# Altium integrated library Linear Technology PMIC-Switching Reg LTC1174-LTC3901.IntLib: 2647 symbols (part 289 of 310)
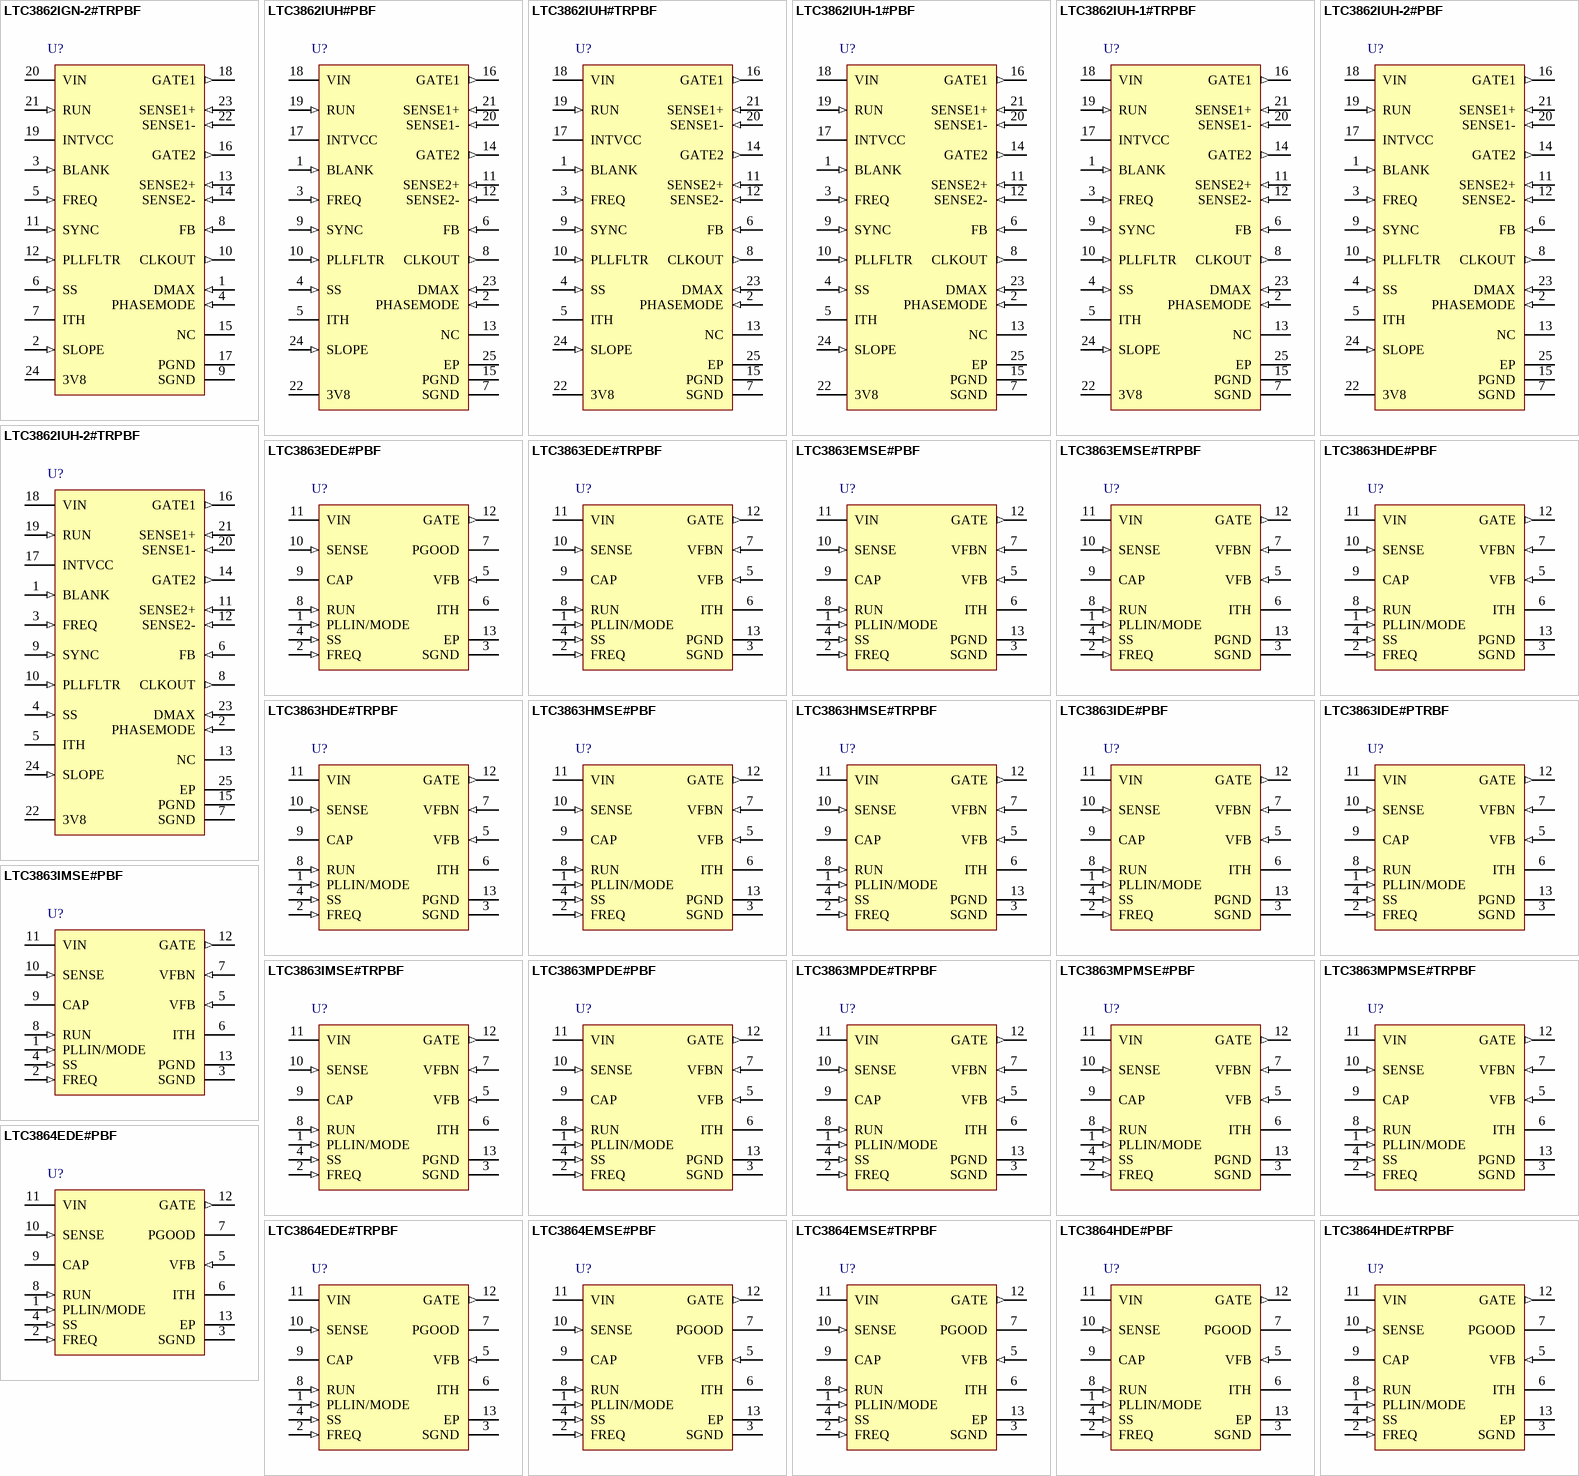
[diagram p291: symbols LTC3862IGN-2#TRPBF to LTC3864HDE#TRPBF]

## LTC3862IUH-2#TRPBF
designator U?
Multi-Phase Current Mode Step-Up DC/DC Controller, 10 V IntVcc, 7.5 V UV+, 7 V UV-, 24-pin QFN (UH-24), -40 to 150 degC, Pb-Free, Tape and Reel; Manufacturer: Linear Technology; PartNumber: LTC3862IUH-2#TRPBF; Number of Outputs: 1; PackageReference: UH-24; PackageDescription: 24-Pin Plastic QFN, Body 5 x 5 mm, Pitch 0.65 mm; Supplier 1: Digi-Key; Supplier Part Number 1: LTC3862IUH-2#TRPBF-ND; RoHS: TRUE
footprint LT-UH-24_N (QFN, 24-Leads, Body 5.1x5.1mm, Pitch 0.65mm, Thermal Pad 3.2x3.2mm, IPC Medium Density)
footprint LT-UH-24_L (QFN, 24-Leads, Body 5.1x5.1mm, Pitch 0.65mm, Thermal Pad 3.2x3.2mm, IPC High Density)
footprint LT-UH-24_M (QFN, 24-Leads, Body 5.1x5.1mm, Pitch 0.65mm, Thermal Pad 3.2x3.2mm, IPC Low Density)
pins: 1 BLANK (in) "Blanking Time. Floating this pin provides a nominal minimum on-time of 290ns. Connecting this pin to 3V8 provides a minimum on-time of 375ns, while connecting it to SGND provides a minimum on-time of 210ns.", 2 PHASEMODE (in) "The PHASEMODE pin voltage programs the phase relationship between CH1 and CH2 rising gate signals, as well as the phase relationship between CH1 gate signal and CLKOUT. Floating this pin or connecting it to either 3V8, or (See Datasheet)", 3 FREQ (in) "A resistor from FREQ to SGND sets the operating frequency.", 4 SS (in) "Soft-Start Input. For soft-start operation, connecting a capacitor from this pin to SGND will clamp the output of the error amp. An internal 5uA current source will charge the capacitor and set the rate of increase of the (See Datasheet)", 5 ITH "Error Amplifier Output. The current comparator trip threshold increases with the ITH control voltage. The ITH pin is also used for compensating the control loop of the converter.", 6 FB (in) "Error Amplifier Input. The FB pin should be connected through a resistive divider network to VOUT to set the output voltage.", 7 SGND (power) "Signal Ground. All feedback and soft-start connections should return to SGND. For optimum load regulation, the SGND pin should be kelvin connected to the PCB location between the negative terminals of the output capacitors.", 8 CLKOUT (out), 9 SYNC (in) "PLL Synchronization Input. Applying an external clock between 50kHz and 650kHz will cause the operating frequency to synchronize to the clock. SYNC is pulled down by a 50k internal resistor. The rising edge of the SYNC input (See Datasheet)", 10 PLLFLTR (in) "PLL Lowpass Filter Input. When synchronizing to an external clock, this pin serves as the lowpass filter input for the PLL. A series resistor and capacitor connected from PLLFLTR to SGND compensate the PLL feedback loop.", 11 SENSE2+ (in) "Positive Inputs to the Current Comparators. The ITH pin voltage programs the current comparator offset in order to set the peak current trip threshold. This pin is normally connected to a sense resistor in the source of the (See Datasheet)", 12 SENSE2- (in) "Negative Inputs to the Current Comparators. This pin is normally connected to the bottom of the sense resistor.", 13 NC, 14 GATE2 (out), 15 PGND (power) "Power Ground. Connect this pin close to the sources of the power MOSFETs. PGND should also be connected to the negative terminals of VIN and INTVCC bypass capacitors. PGND is electrically isolated from the SGND pin. The (See Datasheet)", 16 GATE1 (out), 17 INTVCC (power) "Output of the Internal 10V Low Dropout Regulator (LDO). A low ESR 4.7uF (X5R or better) ceramic bypass capacitor should be connected between INTVCC and PGND, as close as possible to the IC.", 18 VIN (power) "Main Supply Input. A low ESR ceramic capacitor should be connected between this pin and SGND.", 19 RUN (in) "Run Control Input. A voltage above 1.22V on the pin turns on the IC. Forcing the pin below 1.22V causes the IC to shut down. There is a 0.5uA pull-up current for this pin. Once the RUN pin raises above 1.22V, an additional 4.(See Datasheet)", 20 SENSE1- (in) "Negative Inputs to the Current Comparators. This pin is normally connected to the bottom of the sense resistor.", 21 SENSE1+ (in) "Positive Inputs to the Current Comparators. The ITH pin voltage programs the current comparator offset in order to set the peak current trip threshold. This pin is normally connected to a sense resistor in the source of the (See Datasheet)", 22 3V8 (power) "Output of the Internal 3.8V LDO from INTVCC. Supply pin for the low voltage analog and digital circuits. A low ESR 1nF ceramic bypass capacitor should be connected between 3V8 and SGND, as close as possible to the IC.", 23 DMAX (in) "Maximum Duty Cycle. This pin programs the maximum duty cycle. Floating this pin provides 84% duty cycle. Connecting this pin to 3V8 provides 75% duty cycle, while connecting it to SGND provides 96% duty cycle. The maximum (See Datasheet)", 24 SLOPE (in) "This pin programs the gain of the internal slope compensation. Floating this pin provides a normalized slope compensation gain of 1.00. Connecting this pin to 3V8 increases the normalized slope compensation by 66%, and (See Datasheet)", 25 EP (power)

## LTC3863EDE#PBF
designator U?
Low IQ Inverting DC/DC Controller, 12-pin SON (DE-UE-12), -40 to 125 degC, Pb-Free; Manufacturer: Linear Technology; PartNumber: LTC3863EDE#PBF; Number of Outputs: 1; PackageReference: DE-UE-12; PackageDescription: 12-Pin Plastic DFN, Body 4 x 3 mm, Pitch 0.5 mm; Supplier 1: Digi-Key; Supplier Part Number 1: LTC3863EDE#PBF-ND; RoHS: TRUE; Code_JEDEC: MO-229
footprint LT-DE-UE-12_V (SON, 12-Leads, Body 4x3mm, Pitch 0.5mm, Thermal Pad 3.3x1.7mm)
pins: 1 PLLIN/MODE (in) "External Reference Clock Input and Burst Mode Enable/Disable. When an external clock is applied to this pin, the internal phase-locked loop will synchronize the turn-on edge of the gate drive signal with the rising edge of (See Datasheet)", 2 FREQ (in) "Switching Frequency Set Point Input. The switching frequency is programmed by an external setpoint resistor RFREQ connected between the FREQ pin and signal ground. An internal 20uA current source creates a voltage across the (See Datasheet)", 3 SGND (power) "Ground Reference for Small Signal Analog Component (Signal Ground). Signal ground should be used as the common ground for all small signal analog inputs and compensation components. Connect signal ground to power ground (See Datasheet)", 4 SS (in) "Soft-Start and External Tracking Input. The LTC3864 regulates the feedback voltage to the smaller of 0.8V or the voltage on the SS pin. An internal 10uA pull-up current source is connected to this pin. A capacitor to ground (See Datasheet)", 5 VFB (in) "Output Feedback Sense. A resistor divider from the regulated output point to this pin sets the output voltage. The LTC3864 will nominally regulate VFB to the internal reference value of 0.8V. If VFB is less than 0.4V, the (See Datasheet)", 6 ITH "Current Control Threshold and Controller Compensation Point. This pin is the output of the error amplifier and the switching regulator? compensation point. The voltage ranges from 0V to 2.9V, with 0.8V corresponding t(See Datasheet)", 7 PGOOD (oc) "Power Good Indicator Output. This open drain logic output is pulled to ground when the output voltage is outside of a +/-10% window around the regulation point. The PGOOD switches states only after a 100us delay.", 8 RUN (in) "Digital Run Control Input. A RUN voltage above the 1.26V threshold enables normal operation, while a voltage below the threshold shuts down the controller. An internal 0.4uA current source pulls the RUN pin up to about 3.3V. (See Datasheet)", 9 CAP (power) "Gate Driver (-) Supply. A low ESR ceramic bypass capacitor of at least 0.1uF or 10X the effective CMILLER of the P-channel power MOSFET, is required from VIN to this pin to serve as a bypass capacitor for the internal (See Datasheet)", 10 SENSE (in) "Current Sense Input. A sense resistor RSENSE from VIN pin to the SENSE pin sets the maximum current limit. The peak inductor current limit is equal to 95mV/RSENSE. For accuracy, it is important that the VINpin and the SENSE (See Datasheet)", 11 VIN (power) "Chip Power Supply. A minimum bypass capacitor of 0.1uF is required from the VIN pin to power ground. For best performance use a low ESR ceramic capacitor placed near the VIN pin.", 12 GATE (out) "Gate Drive Output for External P-Channel MOSFET. The gate driver bias supply voltage (VIN-VCAP) is regulated to 8V when VIN is greater than 8V. The gate driver is disabled when (VIN-VCAP) is less than 3.5V (typical), 3.8V (See Datasheet)", 13 EP (power) "Ground Reference for Power Components (Power Ground). The PGND exposed pad must be soldered to the circuit board for electrical contact and for rated thermal performance of the package. Connect signal ground to power ground (See Datasheet)"

## LTC3863EDE#TRPBF
designator U?
Low IQ Inverting DC/DC Controller, 12-pin SON (DE-UE-12), -40 to 125 degC, Pb-Free, Tape and Reel; Manufacturer: Linear Technology; PartNumber: LTC3863EDE#TRPBF; Number of Outputs: 1; PackageReference: DE-UE-12; PackageDescription: 12-Pin Plastic DFN, Body 4 x 3 mm, Pitch 0.5 mm; Supplier 1: Digi-Key; Supplier Part Number 1: LTC3863EDE#TRPBF-ND; RoHS: TRUE; Code_JEDEC: MO-229
footprint LT-DE-UE-12_V (SON, 12-Leads, Body 4x3mm, Pitch 0.5mm, Thermal Pad 3.3x1.7mm)
pins: 1 PLLIN/MODE (in) "External Reference Clock Input and Burst Mode Enable/Disable. When an external clock is applied to this pin, the internal phase-locked loop will synchronize the turn-on edge of the gate drive signal with the rising edge of (See Datasheet)", 2 FREQ (in) "Switching Frequency Setpoint Input. The switching frequency is programmed by an external setpoint resistor RFREQ connected between the FREQ pin and signal ground. An internal 20uA current source creates a voltage across the (See Datasheet)", 3 SGND (power) "Ground Reference for Small-Signal Analog Component (Signal Ground). Signal ground should be used as the common ground for all small-signal analog inputs and compensation components. Connect the signal ground to the power (See Datasheet)", 4 SS (in) "Soft-Start and External Tracking Input. The LTC3863 regulates the feedback voltage to the smaller of 0.8V or the voltage on the SS pin. An internal 10uA pull-up current source is connected to this pin. A capacitor to ground (See Datasheet)", 5 VFB (in) "Output Feedback Sense. A resistor divider from the regulated output point to this pin sets the output voltage. The LTC3863 will nominally regulate VFB to the internal reference value of 0.8V. If VFB is less than 0.4V, the (See Datasheet)", 6 ITH "Current Control Threshold and Controller Compensation Point. This pin is the output of the error amplifier and the switching regulator’s compensation point. The voltage ranges from 0V to 2.9V, with 0.8V corresponding t(See Datasheet)", 7 VFBN (in) "Feedback Input for an Inverting PWM Controller. Connect VFBN to the center of a resistor divider between the output and VFB. The VFBN threshold is 0V. To defeat the inverting amplifier and use the LTC3863 as an LTC3864 (See Datasheet)", 8 RUN (in) "Digital Run Control Input. A RUN voltage above the 1.26V threshold enables normal operation, while a voltage below the threshold shuts down the controller. An internal 0.4uA current source pulls the RUN pin up to about 3.3V. (See Datasheet)", 9 CAP "Gate Driver (-) Supply. A low ESR ceramic bypass capacitor of at least 0.1uF or 10X the effective CMILLER of the P-channel power MOSFET, is required from VIN to this pin to serve as a bypass capacitor for the internal (See Datasheet)", 10 SENSE (in) "Current Sense Input. A sense resistor, RSENSE, from the VIN pin to the SENSE pin sets the maximum current limit. The peak inductor current limit is equal to 95mV/RSENSE. For accuracy, it is important that the VIN pin and the (See Datasheet)", 11 VIN (power) "Chip Power Supply. A minimum bypass capacitor of 0.1uF is required from the VIN pin to power ground. For best performance use a low ESR ceramic capacitor placed near the VIN pin.", 12 GATE (out) "Gate Drive Output for External P-Channel MOSFET. The gate driver bias supply voltage (VIN-VCAP) is regulated to 8V when VIN is greater than 8V. The gate driver is disabled when (VIN-VCAP) is less than 3.5V (typical), 3.8V (See Datasheet)", 13 PGND (power) "Ground Reference for PowerComponents (Power Ground). The PGND exposed pad must be soldered to the circuit board for electrical contact and for rated thermal performance of the package. Connect signal ground to power ground (See Datasheet)"

## LTC3863EMSE#PBF
designator U?
Low IQ Inverting DC/DC Controller, 12-pin SOP (MSE-12-EDP), -40 to 125 degC, Pb-Free; Manufacturer: Linear Technology; PartNumber: LTC3863EMSE#PBF; Number of Outputs: 1; PackageReference: MSE-12-EDP; PackageDescription: 12-Pin Plastic MSOP, Exposed Die Pad, Body 4.039 x 3 mm, Pitch 0.65 mm; Supplier 1: Digi-Key; Supplier Part Number 1: LTC3863EMSE#PBF-ND; RoHS: TRUE
footprint LT-MSE-12-EDP_N (SOP, 12-Leads, Body 4.1x3.1mm, Pitch 0.65mm, Thermal Pad 2.95x1.76mm, IPC Medium Density)
footprint LT-MSE-12-EDP_L (SOP, 12-Leads, Body 4.1x3.1mm, Pitch 0.65mm, Thermal Pad 2.95x1.76mm, IPC High Density)
footprint LT-MSE-12-EDP_M (SOP, 12-Leads, Body 4.1x3.1mm, Pitch 0.65mm, Thermal Pad 2.95x1.76mm, IPC Low Density)
pins: 1 PLLIN/MODE (in) "External Reference Clock Input and Burst Mode Enable/Disable. When an external clock is applied to this pin, the internal phase-locked loop will synchronize the turn-on edge of the gate drive signal with the rising edge of (See Datasheet)", 2 FREQ (in) "Switching Frequency Setpoint Input. The switching frequency is programmed by an external setpoint resistor RFREQ connected between the FREQ pin and signal ground. An internal 20uA current source creates a voltage across the (See Datasheet)", 3 SGND (power) "Ground Reference for Small-Signal Analog Component (Signal Ground). Signal ground should be used as the common ground for all small-signal analog inputs and compensation components. Connect the signal ground to the power (See Datasheet)", 4 SS (in) "Soft-Start and External Tracking Input. The LTC3863 regulates the feedback voltage to the smaller of 0.8V or the voltage on the SS pin. An internal 10uA pull-up current source is connected to this pin. A capacitor to ground (See Datasheet)", 5 VFB (in) "Output Feedback Sense. A resistor divider from the regulated output point to this pin sets the output voltage. The LTC3863 will nominally regulate VFB to the internal reference value of 0.8V. If VFB is less than 0.4V, the (See Datasheet)", 6 ITH "Current Control Threshold and Controller Compensation Point. This pin is the output of the error amplifier and the switching regulator’s compensation point. The voltage ranges from 0V to 2.9V, with 0.8V corresponding t(See Datasheet)", 7 VFBN (in) "Feedback Input for an Inverting PWM Controller. Connect VFBN to the center of a resistor divider between the output and VFB. The VFBN threshold is 0V. To defeat the inverting amplifier and use the LTC3863 as an LTC3864 (See Datasheet)", 8 RUN (in) "Digital Run Control Input. A RUN voltage above the 1.26V threshold enables normal operation, while a voltage below the threshold shuts down the controller. An internal 0.4uA current source pulls the RUN pin up to about 3.3V. (See Datasheet)", 9 CAP "Gate Driver (-) Supply. A low ESR ceramic bypass capacitor of at least 0.1uF or 10X the effective CMILLER of the P-channel power MOSFET, is required from VIN to this pin to serve as a bypass capacitor for the internal (See Datasheet)", 10 SENSE (in) "Current Sense Input. A sense resistor, RSENSE, from the VIN pin to the SENSE pin sets the maximum current limit. The peak inductor current limit is equal to 95mV/RSENSE. For accuracy, it is important that the VIN pin and the (See Datasheet)", 11 VIN (power) "Chip Power Supply. A minimum bypass capacitor of 0.1uF is required from the VIN pin to power ground. For best performance use a low ESR ceramic capacitor placed near the VIN pin.", 12 GATE (out) "Gate Drive Output for External P-Channel MOSFET. The gate driver bias supply voltage (VIN-VCAP) is regulated to 8V when VIN is greater than 8V. The gate driver is disabled when (VIN-VCAP) is less than 3.5V (typical), 3.8V (See Datasheet)", 13 PGND (power) "Ground Reference for PowerComponents (Power Ground). The PGND exposed pad must be soldered to the circuit board for electrical contact and for rated thermal performance of the package. Connect signal ground to power ground (See Datasheet)"

## LTC3863EMSE#TRPBF
designator U?
Low IQ Inverting DC/DC Controller, 12-pin SOP (MSE-12-EDP), -40 to 125 degC, Pb-Free, Tape and Reel; Manufacturer: Linear Technology; PartNumber: LTC3863EMSE#TRPBF; Number of Outputs: 1; PackageReference: MSE-12-EDP; PackageDescription: 12-Pin Plastic MSOP, Exposed Die Pad, Body 4.039 x 3 mm, Pitch 0.65 mm; Supplier 1: Digi-Key; Supplier Part Number 1: LTC3863EMSE#TRPBF-ND; RoHS: TRUE
footprint LT-MSE-12-EDP_N (SOP, 12-Leads, Body 4.1x3.1mm, Pitch 0.65mm, Thermal Pad 2.95x1.76mm, IPC Medium Density)
footprint LT-MSE-12-EDP_L (SOP, 12-Leads, Body 4.1x3.1mm, Pitch 0.65mm, Thermal Pad 2.95x1.76mm, IPC High Density)
footprint LT-MSE-12-EDP_M (SOP, 12-Leads, Body 4.1x3.1mm, Pitch 0.65mm, Thermal Pad 2.95x1.76mm, IPC Low Density)
pins: 1 PLLIN/MODE (in) "External Reference Clock Input and Burst Mode Enable/Disable. When an external clock is applied to this pin, the internal phase-locked loop will synchronize the turn-on edge of the gate drive signal with the rising edge of (See Datasheet)", 2 FREQ (in) "Switching Frequency Setpoint Input. The switching frequency is programmed by an external setpoint resistor RFREQ connected between the FREQ pin and signal ground. An internal 20uA current source creates a voltage across the (See Datasheet)", 3 SGND (power) "Ground Reference for Small-Signal Analog Component (Signal Ground). Signal ground should be used as the common ground for all small-signal analog inputs and compensation components. Connect the signal ground to the power (See Datasheet)", 4 SS (in) "Soft-Start and External Tracking Input. The LTC3863 regulates the feedback voltage to the smaller of 0.8V or the voltage on the SS pin. An internal 10uA pull-up current source is connected to this pin. A capacitor to ground (See Datasheet)", 5 VFB (in) "Output Feedback Sense. A resistor divider from the regulated output point to this pin sets the output voltage. The LTC3863 will nominally regulate VFB to the internal reference value of 0.8V. If VFB is less than 0.4V, the (See Datasheet)", 6 ITH "Current Control Threshold and Controller Compensation Point. This pin is the output of the error amplifier and the switching regulator’s compensation point. The voltage ranges from 0V to 2.9V, with 0.8V corresponding t(See Datasheet)", 7 VFBN (in) "Feedback Input for an Inverting PWM Controller. Connect VFBN to the center of a resistor divider between the output and VFB. The VFBN threshold is 0V. To defeat the inverting amplifier and use the LTC3863 as an LTC3864 (See Datasheet)", 8 RUN (in) "Digital Run Control Input. A RUN voltage above the 1.26V threshold enables normal operation, while a voltage below the threshold shuts down the controller. An internal 0.4uA current source pulls the RUN pin up to about 3.3V. (See Datasheet)", 9 CAP "Gate Driver (-) Supply. A low ESR ceramic bypass capacitor of at least 0.1uF or 10X the effective CMILLER of the P-channel power MOSFET, is required from VIN to this pin to serve as a bypass capacitor for the internal (See Datasheet)", 10 SENSE (in) "Current Sense Input. A sense resistor, RSENSE, from the VIN pin to the SENSE pin sets the maximum current limit. The peak inductor current limit is equal to 95mV/RSENSE. For accuracy, it is important that the VIN pin and the (See Datasheet)", 11 VIN (power) "Chip Power Supply. A minimum bypass capacitor of 0.1uF is required from the VIN pin to power ground. For best performance use a low ESR ceramic capacitor placed near the VIN pin.", 12 GATE (out) "Gate Drive Output for External P-Channel MOSFET. The gate driver bias supply voltage (VIN-VCAP) is regulated to 8V when VIN is greater than 8V. The gate driver is disabled when (VIN-VCAP) is less than 3.5V (typical), 3.8V (See Datasheet)", 13 PGND (power) "Ground Reference for PowerComponents (Power Ground). The PGND exposed pad must be soldered to the circuit board for electrical contact and for rated thermal performance of the package. Connect signal ground to power ground (See Datasheet)"

## LTC3863HDE#PBF
designator U?
Low IQ Inverting DC/DC Controller, 12-pin SON (DE-UE-12), -40 to 150 degC, Pb-Free; Manufacturer: Linear Technology; PartNumber: LTC3863HDE#PBF; Number of Outputs: 1; PackageReference: DE-UE-12; PackageDescription: 12-Pin Plastic DFN, Body 4 x 3 mm, Pitch 0.5 mm; Supplier 1: Digi-Key; Supplier Part Number 1: LTC3863HDE#PBF-ND; RoHS: TRUE; Code_JEDEC: MO-229
footprint LT-DE-UE-12_V (SON, 12-Leads, Body 4x3mm, Pitch 0.5mm, Thermal Pad 3.3x1.7mm)
pins: 1 PLLIN/MODE (in) "External Reference Clock Input and Burst Mode Enable/Disable. When an external clock is applied to this pin, the internal phase-locked loop will synchronize the turn-on edge of the gate drive signal with the rising edge of (See Datasheet)", 2 FREQ (in) "Switching Frequency Setpoint Input. The switching frequency is programmed by an external setpoint resistor RFREQ connected between the FREQ pin and signal ground. An internal 20uA current source creates a voltage across the (See Datasheet)", 3 SGND (power) "Ground Reference for Small-Signal Analog Component (Signal Ground). Signal ground should be used as the common ground for all small-signal analog inputs and compensation components. Connect the signal ground to the power (See Datasheet)", 4 SS (in) "Soft-Start and External Tracking Input. The LTC3863 regulates the feedback voltage to the smaller of 0.8V or the voltage on the SS pin. An internal 10uA pull-up current source is connected to this pin. A capacitor to ground (See Datasheet)", 5 VFB (in) "Output Feedback Sense. A resistor divider from the regulated output point to this pin sets the output voltage. The LTC3863 will nominally regulate VFB to the internal reference value of 0.8V. If VFB is less than 0.4V, the (See Datasheet)", 6 ITH "Current Control Threshold and Controller Compensation Point. This pin is the output of the error amplifier and the switching regulator’s compensation point. The voltage ranges from 0V to 2.9V, with 0.8V corresponding t(See Datasheet)", 7 VFBN (in) "Feedback Input for an Inverting PWM Controller. Connect VFBN to the center of a resistor divider between the output and VFB. The VFBN threshold is 0V. To defeat the inverting amplifier and use the LTC3863 as an LTC3864 (See Datasheet)", 8 RUN (in) "Digital Run Control Input. A RUN voltage above the 1.26V threshold enables normal operation, while a voltage below the threshold shuts down the controller. An internal 0.4uA current source pulls the RUN pin up to about 3.3V. (See Datasheet)", 9 CAP "Gate Driver (-) Supply. A low ESR ceramic bypass capacitor of at least 0.1uF or 10X the effective CMILLER of the P-channel power MOSFET, is required from VIN to this pin to serve as a bypass capacitor for the internal (See Datasheet)", 10 SENSE (in) "Current Sense Input. A sense resistor, RSENSE, from the VIN pin to the SENSE pin sets the maximum current limit. The peak inductor current limit is equal to 95mV/RSENSE. For accuracy, it is important that the VIN pin and the (See Datasheet)", 11 VIN (power) "Chip Power Supply. A minimum bypass capacitor of 0.1uF is required from the VIN pin to power ground. For best performance use a low ESR ceramic capacitor placed near the VIN pin.", 12 GATE (out) "Gate Drive Output for External P-Channel MOSFET. The gate driver bias supply voltage (VIN-VCAP) is regulated to 8V when VIN is greater than 8V. The gate driver is disabled when (VIN-VCAP) is less than 3.5V (typical), 3.8V (See Datasheet)", 13 PGND (power) "Ground Reference for PowerComponents (Power Ground). The PGND exposed pad must be soldered to the circuit board for electrical contact and for rated thermal performance of the package. Connect signal ground to power ground (See Datasheet)"

## LTC3863HDE#TRPBF
designator U?
Low IQ Inverting DC/DC Controller, 12-pin SON (DE-UE-12), -40 to 150 degC, Pb-Free, Tape and Reel; Manufacturer: Linear Technology; PartNumber: LTC3863HDE#TRPBF; Number of Outputs: 1; PackageReference: DE-UE-12; PackageDescription: 12-Pin Plastic DFN, Body 4 x 3 mm, Pitch 0.5 mm; Supplier 1: Digi-Key; Supplier Part Number 1: LTC3863HDE#TRPBF-ND; RoHS: TRUE; Code_JEDEC: MO-229
footprint LT-DE-UE-12_V (SON, 12-Leads, Body 4x3mm, Pitch 0.5mm, Thermal Pad 3.3x1.7mm)
pins: 1 PLLIN/MODE (in) "External Reference Clock Input and Burst Mode Enable/Disable. When an external clock is applied to this pin, the internal phase-locked loop will synchronize the turn-on edge of the gate drive signal with the rising edge of (See Datasheet)", 2 FREQ (in) "Switching Frequency Setpoint Input. The switching frequency is programmed by an external setpoint resistor RFREQ connected between the FREQ pin and signal ground. An internal 20uA current source creates a voltage across the (See Datasheet)", 3 SGND (power) "Ground Reference for Small-Signal Analog Component (Signal Ground). Signal ground should be used as the common ground for all small-signal analog inputs and compensation components. Connect the signal ground to the power (See Datasheet)", 4 SS (in) "Soft-Start and External Tracking Input. The LTC3863 regulates the feedback voltage to the smaller of 0.8V or the voltage on the SS pin. An internal 10uA pull-up current source is connected to this pin. A capacitor to ground (See Datasheet)", 5 VFB (in) "Output Feedback Sense. A resistor divider from the regulated output point to this pin sets the output voltage. The LTC3863 will nominally regulate VFB to the internal reference value of 0.8V. If VFB is less than 0.4V, the (See Datasheet)", 6 ITH "Current Control Threshold and Controller Compensation Point. This pin is the output of the error amplifier and the switching regulator’s compensation point. The voltage ranges from 0V to 2.9V, with 0.8V corresponding t(See Datasheet)", 7 VFBN (in) "Feedback Input for an Inverting PWM Controller. Connect VFBN to the center of a resistor divider between the output and VFB. The VFBN threshold is 0V. To defeat the inverting amplifier and use the LTC3863 as an LTC3864 (See Datasheet)", 8 RUN (in) "Digital Run Control Input. A RUN voltage above the 1.26V threshold enables normal operation, while a voltage below the threshold shuts down the controller. An internal 0.4uA current source pulls the RUN pin up to about 3.3V. (See Datasheet)", 9 CAP "Gate Driver (-) Supply. A low ESR ceramic bypass capacitor of at least 0.1uF or 10X the effective CMILLER of the P-channel power MOSFET, is required from VIN to this pin to serve as a bypass capacitor for the internal (See Datasheet)", 10 SENSE (in) "Current Sense Input. A sense resistor, RSENSE, from the VIN pin to the SENSE pin sets the maximum current limit. The peak inductor current limit is equal to 95mV/RSENSE. For accuracy, it is important that the VIN pin and the (See Datasheet)", 11 VIN (power) "Chip Power Supply. A minimum bypass capacitor of 0.1uF is required from the VIN pin to power ground. For best performance use a low ESR ceramic capacitor placed near the VIN pin.", 12 GATE (out) "Gate Drive Output for External P-Channel MOSFET. The gate driver bias supply voltage (VIN-VCAP) is regulated to 8V when VIN is greater than 8V. The gate driver is disabled when (VIN-VCAP) is less than 3.5V (typical), 3.8V (See Datasheet)", 13 PGND (power) "Ground Reference for PowerComponents (Power Ground). The PGND exposed pad must be soldered to the circuit board for electrical contact and for rated thermal performance of the package. Connect signal ground to power ground (See Datasheet)"

## LTC3863HMSE#PBF
designator U?
Low IQ Inverting DC/DC Controller, 12-pin SOP (MSE-12-EDP), -40 to 150 degC, Pb-Free; Manufacturer: Linear Technology; PartNumber: LTC3863HMSE#PBF; Number of Outputs: 1; PackageReference: MSE-12-EDP; PackageDescription: 12-Pin Plastic MSOP, Exposed Die Pad, Body 4.039 x 3 mm, Pitch 0.65 mm; Supplier 1: Digi-Key; Supplier Part Number 1: LTC3863HMSE#PBF-ND; RoHS: TRUE
footprint LT-MSE-12-EDP_N (SOP, 12-Leads, Body 4.1x3.1mm, Pitch 0.65mm, Thermal Pad 2.95x1.76mm, IPC Medium Density)
footprint LT-MSE-12-EDP_L (SOP, 12-Leads, Body 4.1x3.1mm, Pitch 0.65mm, Thermal Pad 2.95x1.76mm, IPC High Density)
footprint LT-MSE-12-EDP_M (SOP, 12-Leads, Body 4.1x3.1mm, Pitch 0.65mm, Thermal Pad 2.95x1.76mm, IPC Low Density)
pins: 1 PLLIN/MODE (in) "External Reference Clock Input and Burst Mode Enable/Disable. When an external clock is applied to this pin, the internal phase-locked loop will synchronize the turn-on edge of the gate drive signal with the rising edge of (See Datasheet)", 2 FREQ (in) "Switching Frequency Setpoint Input. The switching frequency is programmed by an external setpoint resistor RFREQ connected between the FREQ pin and signal ground. An internal 20uA current source creates a voltage across the (See Datasheet)", 3 SGND (power) "Ground Reference for Small-Signal Analog Component (Signal Ground). Signal ground should be used as the common ground for all small-signal analog inputs and compensation components. Connect the signal ground to the power (See Datasheet)", 4 SS (in) "Soft-Start and External Tracking Input. The LTC3863 regulates the feedback voltage to the smaller of 0.8V or the voltage on the SS pin. An internal 10uA pull-up current source is connected to this pin. A capacitor to ground (See Datasheet)", 5 VFB (in) "Output Feedback Sense. A resistor divider from the regulated output point to this pin sets the output voltage. The LTC3863 will nominally regulate VFB to the internal reference value of 0.8V. If VFB is less than 0.4V, the (See Datasheet)", 6 ITH "Current Control Threshold and Controller Compensation Point. This pin is the output of the error amplifier and the switching regulator’s compensation point. The voltage ranges from 0V to 2.9V, with 0.8V corresponding t(See Datasheet)", 7 VFBN (in) "Feedback Input for an Inverting PWM Controller. Connect VFBN to the center of a resistor divider between the output and VFB. The VFBN threshold is 0V. To defeat the inverting amplifier and use the LTC3863 as an LTC3864 (See Datasheet)", 8 RUN (in) "Digital Run Control Input. A RUN voltage above the 1.26V threshold enables normal operation, while a voltage below the threshold shuts down the controller. An internal 0.4uA current source pulls the RUN pin up to about 3.3V. (See Datasheet)", 9 CAP "Gate Driver (-) Supply. A low ESR ceramic bypass capacitor of at least 0.1uF or 10X the effective CMILLER of the P-channel power MOSFET, is required from VIN to this pin to serve as a bypass capacitor for the internal (See Datasheet)", 10 SENSE (in) "Current Sense Input. A sense resistor, RSENSE, from the VIN pin to the SENSE pin sets the maximum current limit. The peak inductor current limit is equal to 95mV/RSENSE. For accuracy, it is important that the VIN pin and the (See Datasheet)", 11 VIN (power) "Chip Power Supply. A minimum bypass capacitor of 0.1uF is required from the VIN pin to power ground. For best performance use a low ESR ceramic capacitor placed near the VIN pin.", 12 GATE (out) "Gate Drive Output for External P-Channel MOSFET. The gate driver bias supply voltage (VIN-VCAP) is regulated to 8V when VIN is greater than 8V. The gate driver is disabled when (VIN-VCAP) is less than 3.5V (typical), 3.8V (See Datasheet)", 13 PGND (power) "Ground Reference for PowerComponents (Power Ground). The PGND exposed pad must be soldered to the circuit board for electrical contact and for rated thermal performance of the package. Connect signal ground to power ground (See Datasheet)"

## LTC3863HMSE#TRPBF
designator U?
Low IQ Inverting DC/DC Controller, 12-pin SOP (MSE-12-EDP), -40 to 150 degC, Pb-Free, Tape and Reel; Manufacturer: Linear Technology; PartNumber: LTC3863HMSE#TRPBF; Number of Outputs: 1; PackageReference: MSE-12-EDP; PackageDescription: 12-Pin Plastic MSOP, Exposed Die Pad, Body 4.039 x 3 mm, Pitch 0.65 mm; Supplier 1: Digi-Key; Supplier Part Number 1: LTC3863HMSE#TRPBF-ND; RoHS: TRUE
footprint LT-MSE-12-EDP_N (SOP, 12-Leads, Body 4.1x3.1mm, Pitch 0.65mm, Thermal Pad 2.95x1.76mm, IPC Medium Density)
footprint LT-MSE-12-EDP_L (SOP, 12-Leads, Body 4.1x3.1mm, Pitch 0.65mm, Thermal Pad 2.95x1.76mm, IPC High Density)
footprint LT-MSE-12-EDP_M (SOP, 12-Leads, Body 4.1x3.1mm, Pitch 0.65mm, Thermal Pad 2.95x1.76mm, IPC Low Density)
pins: 1 PLLIN/MODE (in) "External Reference Clock Input and Burst Mode Enable/Disable. When an external clock is applied to this pin, the internal phase-locked loop will synchronize the turn-on edge of the gate drive signal with the rising edge of (See Datasheet)", 2 FREQ (in) "Switching Frequency Setpoint Input. The switching frequency is programmed by an external setpoint resistor RFREQ connected between the FREQ pin and signal ground. An internal 20uA current source creates a voltage across the (See Datasheet)", 3 SGND (power) "Ground Reference for Small-Signal Analog Component (Signal Ground). Signal ground should be used as the common ground for all small-signal analog inputs and compensation components. Connect the signal ground to the power (See Datasheet)", 4 SS (in) "Soft-Start and External Tracking Input. The LTC3863 regulates the feedback voltage to the smaller of 0.8V or the voltage on the SS pin. An internal 10uA pull-up current source is connected to this pin. A capacitor to ground (See Datasheet)", 5 VFB (in) "Output Feedback Sense. A resistor divider from the regulated output point to this pin sets the output voltage. The LTC3863 will nominally regulate VFB to the internal reference value of 0.8V. If VFB is less than 0.4V, the (See Datasheet)", 6 ITH "Current Control Threshold and Controller Compensation Point. This pin is the output of the error amplifier and the switching regulator’s compensation point. The voltage ranges from 0V to 2.9V, with 0.8V corresponding t(See Datasheet)", 7 VFBN (in) "Feedback Input for an Inverting PWM Controller. Connect VFBN to the center of a resistor divider between the output and VFB. The VFBN threshold is 0V. To defeat the inverting amplifier and use the LTC3863 as an LTC3864 (See Datasheet)", 8 RUN (in) "Digital Run Control Input. A RUN voltage above the 1.26V threshold enables normal operation, while a voltage below the threshold shuts down the controller. An internal 0.4uA current source pulls the RUN pin up to about 3.3V. (See Datasheet)", 9 CAP "Gate Driver (-) Supply. A low ESR ceramic bypass capacitor of at least 0.1uF or 10X the effective CMILLER of the P-channel power MOSFET, is required from VIN to this pin to serve as a bypass capacitor for the internal (See Datasheet)", 10 SENSE (in) "Current Sense Input. A sense resistor, RSENSE, from the VIN pin to the SENSE pin sets the maximum current limit. The peak inductor current limit is equal to 95mV/RSENSE. For accuracy, it is important that the VIN pin and the (See Datasheet)", 11 VIN (power) "Chip Power Supply. A minimum bypass capacitor of 0.1uF is required from the VIN pin to power ground. For best performance use a low ESR ceramic capacitor placed near the VIN pin.", 12 GATE (out) "Gate Drive Output for External P-Channel MOSFET. The gate driver bias supply voltage (VIN-VCAP) is regulated to 8V when VIN is greater than 8V. The gate driver is disabled when (VIN-VCAP) is less than 3.5V (typical), 3.8V (See Datasheet)", 13 PGND (power) "Ground Reference for PowerComponents (Power Ground). The PGND exposed pad must be soldered to the circuit board for electrical contact and for rated thermal performance of the package. Connect signal ground to power ground (See Datasheet)"

## LTC3863IDE#PBF
designator U?
Low IQ Inverting DC/DC Controller, 12-pin SON (DE-UE-12), -40 to 125 degC, Pb-Free; Manufacturer: Linear Technology; PartNumber: LTC3863IDE#PBF; Number of Outputs: 1; PackageReference: DE-UE-12; PackageDescription: 12-Pin Plastic DFN, Body 4 x 3 mm, Pitch 0.5 mm; Supplier 1: Digi-Key; Supplier Part Number 1: LTC3863IDE#PBF-ND; RoHS: TRUE; Code_JEDEC: MO-229
footprint LT-DE-UE-12_V (SON, 12-Leads, Body 4x3mm, Pitch 0.5mm, Thermal Pad 3.3x1.7mm)
pins: 1 PLLIN/MODE (in) "External Reference Clock Input and Burst Mode Enable/Disable. When an external clock is applied to this pin, the internal phase-locked loop will synchronize the turn-on edge of the gate drive signal with the rising edge of (See Datasheet)", 2 FREQ (in) "Switching Frequency Setpoint Input. The switching frequency is programmed by an external setpoint resistor RFREQ connected between the FREQ pin and signal ground. An internal 20uA current source creates a voltage across the (See Datasheet)", 3 SGND (power) "Ground Reference for Small-Signal Analog Component (Signal Ground). Signal ground should be used as the common ground for all small-signal analog inputs and compensation components. Connect the signal ground to the power (See Datasheet)", 4 SS (in) "Soft-Start and External Tracking Input. The LTC3863 regulates the feedback voltage to the smaller of 0.8V or the voltage on the SS pin. An internal 10uA pull-up current source is connected to this pin. A capacitor to ground (See Datasheet)", 5 VFB (in) "Output Feedback Sense. A resistor divider from the regulated output point to this pin sets the output voltage. The LTC3863 will nominally regulate VFB to the internal reference value of 0.8V. If VFB is less than 0.4V, the (See Datasheet)", 6 ITH "Current Control Threshold and Controller Compensation Point. This pin is the output of the error amplifier and the switching regulator’s compensation point. The voltage ranges from 0V to 2.9V, with 0.8V corresponding t(See Datasheet)", 7 VFBN (in) "Feedback Input for an Inverting PWM Controller. Connect VFBN to the center of a resistor divider between the output and VFB. The VFBN threshold is 0V. To defeat the inverting amplifier and use the LTC3863 as an LTC3864 (See Datasheet)", 8 RUN (in) "Digital Run Control Input. A RUN voltage above the 1.26V threshold enables normal operation, while a voltage below the threshold shuts down the controller. An internal 0.4uA current source pulls the RUN pin up to about 3.3V. (See Datasheet)", 9 CAP "Gate Driver (-) Supply. A low ESR ceramic bypass capacitor of at least 0.1uF or 10X the effective CMILLER of the P-channel power MOSFET, is required from VIN to this pin to serve as a bypass capacitor for the internal (See Datasheet)", 10 SENSE (in) "Current Sense Input. A sense resistor, RSENSE, from the VIN pin to the SENSE pin sets the maximum current limit. The peak inductor current limit is equal to 95mV/RSENSE. For accuracy, it is important that the VIN pin and the (See Datasheet)", 11 VIN (power) "Chip Power Supply. A minimum bypass capacitor of 0.1uF is required from the VIN pin to power ground. For best performance use a low ESR ceramic capacitor placed near the VIN pin.", 12 GATE (out) "Gate Drive Output for External P-Channel MOSFET. The gate driver bias supply voltage (VIN-VCAP) is regulated to 8V when VIN is greater than 8V. The gate driver is disabled when (VIN-VCAP) is less than 3.5V (typical), 3.8V (See Datasheet)", 13 PGND (power) "Ground Reference for PowerComponents (Power Ground). The PGND exposed pad must be soldered to the circuit board for electrical contact and for rated thermal performance of the package. Connect signal ground to power ground (See Datasheet)"

## LTC3863IDE#PTRBF
designator U?
Low IQ Inverting DC/DC Controller, 12-pin SON (DE-UE-12), -40 to 125 degC, Pb-Free, Tape and Reel; Manufacturer: Linear Technology; PartNumber: LTC3863IDE#PTRBF; Number of Outputs: 1; PackageReference: DE-UE-12; PackageDescription: 12-Pin Plastic DFN, Body 4 x 3 mm, Pitch 0.5 mm; RoHS: TRUE; Code_JEDEC: MO-229
footprint LT-DE-UE-12_V (SON, 12-Leads, Body 4x3mm, Pitch 0.5mm, Thermal Pad 3.3x1.7mm)
pins: 1 PLLIN/MODE (in) "External Reference Clock Input and Burst Mode Enable/Disable. When an external clock is applied to this pin, the internal phase-locked loop will synchronize the turn-on edge of the gate drive signal with the rising edge of (See Datasheet)", 2 FREQ (in) "Switching Frequency Setpoint Input. The switching frequency is programmed by an external setpoint resistor RFREQ connected between the FREQ pin and signal ground. An internal 20uA current source creates a voltage across the (See Datasheet)", 3 SGND (power) "Ground Reference for Small-Signal Analog Component (Signal Ground). Signal ground should be used as the common ground for all small-signal analog inputs and compensation components. Connect the signal ground to the power (See Datasheet)", 4 SS (in) "Soft-Start and External Tracking Input. The LTC3863 regulates the feedback voltage to the smaller of 0.8V or the voltage on the SS pin. An internal 10uA pull-up current source is connected to this pin. A capacitor to ground (See Datasheet)", 5 VFB (in) "Output Feedback Sense. A resistor divider from the regulated output point to this pin sets the output voltage. The LTC3863 will nominally regulate VFB to the internal reference value of 0.8V. If VFB is less than 0.4V, the (See Datasheet)", 6 ITH "Current Control Threshold and Controller Compensation Point. This pin is the output of the error amplifier and the switching regulator’s compensation point. The voltage ranges from 0V to 2.9V, with 0.8V corresponding t(See Datasheet)", 7 VFBN (in) "Feedback Input for an Inverting PWM Controller. Connect VFBN to the center of a resistor divider between the output and VFB. The VFBN threshold is 0V. To defeat the inverting amplifier and use the LTC3863 as an LTC3864 (See Datasheet)", 8 RUN (in) "Digital Run Control Input. A RUN voltage above the 1.26V threshold enables normal operation, while a voltage below the threshold shuts down the controller. An internal 0.4uA current source pulls the RUN pin up to about 3.3V. (See Datasheet)", 9 CAP "Gate Driver (-) Supply. A low ESR ceramic bypass capacitor of at least 0.1uF or 10X the effective CMILLER of the P-channel power MOSFET, is required from VIN to this pin to serve as a bypass capacitor for the internal (See Datasheet)", 10 SENSE (in) "Current Sense Input. A sense resistor, RSENSE, from the VIN pin to the SENSE pin sets the maximum current limit. The peak inductor current limit is equal to 95mV/RSENSE. For accuracy, it is important that the VIN pin and the (See Datasheet)", 11 VIN (power) "Chip Power Supply. A minimum bypass capacitor of 0.1uF is required from the VIN pin to power ground. For best performance use a low ESR ceramic capacitor placed near the VIN pin.", 12 GATE (out) "Gate Drive Output for External P-Channel MOSFET. The gate driver bias supply voltage (VIN-VCAP) is regulated to 8V when VIN is greater than 8V. The gate driver is disabled when (VIN-VCAP) is less than 3.5V (typical), 3.8V (See Datasheet)", 13 PGND (power) "Ground Reference for PowerComponents (Power Ground). The PGND exposed pad must be soldered to the circuit board for electrical contact and for rated thermal performance of the package. Connect signal ground to power ground (See Datasheet)"

## LTC3863IMSE#PBF
designator U?
Low IQ Inverting DC/DC Controller, 12-pin SOP (MSE-12-EDP), -40 to 125 degC, Pb-Free; Manufacturer: Linear Technology; PartNumber: LTC3863IMSE#PBF; Number of Outputs: 1; PackageReference: MSE-12-EDP; PackageDescription: 12-Pin Plastic MSOP, Exposed Die Pad, Body 4.039 x 3 mm, Pitch 0.65 mm; Supplier 1: Digi-Key; Supplier Part Number 1: LTC3863IMSE#PBF-ND; RoHS: TRUE
footprint LT-MSE-12-EDP_N (SOP, 12-Leads, Body 4.1x3.1mm, Pitch 0.65mm, Thermal Pad 2.95x1.76mm, IPC Medium Density)
footprint LT-MSE-12-EDP_L (SOP, 12-Leads, Body 4.1x3.1mm, Pitch 0.65mm, Thermal Pad 2.95x1.76mm, IPC High Density)
footprint LT-MSE-12-EDP_M (SOP, 12-Leads, Body 4.1x3.1mm, Pitch 0.65mm, Thermal Pad 2.95x1.76mm, IPC Low Density)
pins: 1 PLLIN/MODE (in) "External Reference Clock Input and Burst Mode Enable/Disable. When an external clock is applied to this pin, the internal phase-locked loop will synchronize the turn-on edge of the gate drive signal with the rising edge of (See Datasheet)", 2 FREQ (in) "Switching Frequency Setpoint Input. The switching frequency is programmed by an external setpoint resistor RFREQ connected between the FREQ pin and signal ground. An internal 20uA current source creates a voltage across the (See Datasheet)", 3 SGND (power) "Ground Reference for Small-Signal Analog Component (Signal Ground). Signal ground should be used as the common ground for all small-signal analog inputs and compensation components. Connect the signal ground to the power (See Datasheet)", 4 SS (in) "Soft-Start and External Tracking Input. The LTC3863 regulates the feedback voltage to the smaller of 0.8V or the voltage on the SS pin. An internal 10uA pull-up current source is connected to this pin. A capacitor to ground (See Datasheet)", 5 VFB (in) "Output Feedback Sense. A resistor divider from the regulated output point to this pin sets the output voltage. The LTC3863 will nominally regulate VFB to the internal reference value of 0.8V. If VFB is less than 0.4V, the (See Datasheet)", 6 ITH "Current Control Threshold and Controller Compensation Point. This pin is the output of the error amplifier and the switching regulator’s compensation point. The voltage ranges from 0V to 2.9V, with 0.8V corresponding t(See Datasheet)", 7 VFBN (in) "Feedback Input for an Inverting PWM Controller. Connect VFBN to the center of a resistor divider between the output and VFB. The VFBN threshold is 0V. To defeat the inverting amplifier and use the LTC3863 as an LTC3864 (See Datasheet)", 8 RUN (in) "Digital Run Control Input. A RUN voltage above the 1.26V threshold enables normal operation, while a voltage below the threshold shuts down the controller. An internal 0.4uA current source pulls the RUN pin up to about 3.3V. (See Datasheet)", 9 CAP "Gate Driver (-) Supply. A low ESR ceramic bypass capacitor of at least 0.1uF or 10X the effective CMILLER of the P-channel power MOSFET, is required from VIN to this pin to serve as a bypass capacitor for the internal (See Datasheet)", 10 SENSE (in) "Current Sense Input. A sense resistor, RSENSE, from the VIN pin to the SENSE pin sets the maximum current limit. The peak inductor current limit is equal to 95mV/RSENSE. For accuracy, it is important that the VIN pin and the (See Datasheet)", 11 VIN (power) "Chip Power Supply. A minimum bypass capacitor of 0.1uF is required from the VIN pin to power ground. For best performance use a low ESR ceramic capacitor placed near the VIN pin.", 12 GATE (out) "Gate Drive Output for External P-Channel MOSFET. The gate driver bias supply voltage (VIN-VCAP) is regulated to 8V when VIN is greater than 8V. The gate driver is disabled when (VIN-VCAP) is less than 3.5V (typical), 3.8V (See Datasheet)", 13 PGND (power) "Ground Reference for PowerComponents (Power Ground). The PGND exposed pad must be soldered to the circuit board for electrical contact and for rated thermal performance of the package. Connect signal ground to power ground (See Datasheet)"